# Altium footprint library QFP80P1200X1200X120-44N.PcbLib: 1 footprints
Each footprint in its own frame and in the unit in brackets; x right, y up, seen from the top. Pads: shape width x height; smd on the part's side, far side on the other; paste and mask are expansions set on the pad; w line width, h text height; cw(c..) or ccw(c..) is an arc to the next point about the centre after c.
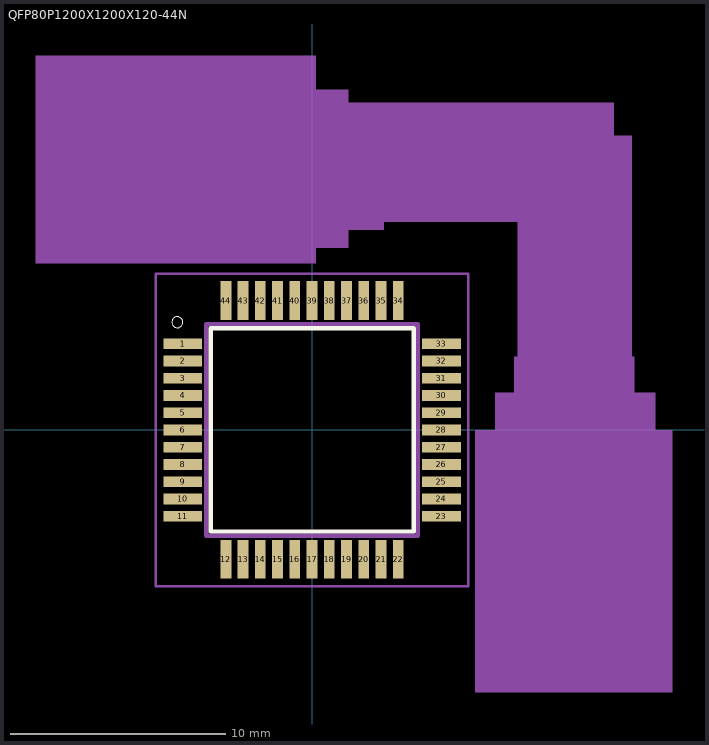
[diagram p0: the footprint, top view; thin cyan lines are the x and y axes]

## QFP80P1200X1200X120-44N [mm]
pads (44):
  rect 1.8x0.5 smd: 1(-6,4) 2(-6,3.2) 3(-6,2.4) 4(-6,1.6) 5(-6,0.8) 6(-6,0) 7(-6,-0.8) 8(-6,-1.6) 9(-6,-2.4) 10(-6,-3.2) 11(-6,-4) 23(6,-4) 24(6,-3.2) 25(6,-2.4) 26(6,-1.6) 27(6,-0.8) 28(6,0) 29(6,0.8) 30(6,1.6) 31(6,2.4) 32(6,3.2) 33(6,4)
  rect 0.5x1.8 smd: 12(-4,-6) 13(-3.2,-6) 14(-2.4,-6) 15(-1.6,-6) 16(-0.8,-6) 17(0,-6) 18(0.8,-6) 19(1.6,-6) 20(2.4,-6) 21(3.2,-6) 22(4,-6) 34(4,6) 35(3.2,6) 36(2.4,6) 37(1.6,6) 38(0.8,6) 39(0,6) 40(-0.8,6) 41(-1.6,6) 42(-2.4,6) 43(-3.2,6) 44(-4,6)
Top Overlay:
  circle w0: c-6.25,5 r0.254
  lines w0.203: -4.71,-4.71 4.71,-4.71 4.71,4.72 -4.71,4.72 -4.71,-4.71
Assembly Top:
  region: 16.707,-12.167 7.565,-12.167 7.565,-0.005 16.707,-0.005
  region: 15.911,-10.571 8.501,-10.571 8.501,1.732 15.911,1.732
  region: 14.936,-8.795 9.373,-8.795 9.373,3.403 14.936,3.403
  region: 14.15,-7.21 10.356,-7.21 10.356,5.186 14.15,5.186
  region: 13.18,-5.44 11.217,-5.44 11.217,6.847 13.18,6.847
  region: 12.276,-3.736 12.127,-3.736 12.127,8.557 12.276,8.557
  region: 13.212,-2.131 11.471,-2.131 11.471,10.442 13.212,10.442
  region: 14.007,-0.349 10.489,-0.349 10.489,12.037 14.007,12.037
  region: 14.825,1.392 9.548,1.392 9.548,13.655 14.825,13.655
  region: 14.004,9.648 1.292,9.648 1.292,15.174 14.004,15.174
  region: 11.693,10.346 -0.206,10.346 -0.206,13.663 11.693,13.663
  region: 10.698,11.619 -2.278,11.619 -2.278,13.468 10.698,13.468
  region: 8.531,12.101 -3.716,12.101 -3.716,12.256 8.531,12.256
  region: 6.798,11.168 -5.389,11.168 -5.389,13.13 6.798,13.13
  region: 5.221,10.391 -7.258,10.391 -7.258,14.198 5.221,14.198
  region: 3.324,9.294 -8.65,9.294 -8.65,14.79 3.324,14.79
  region: 1.678,8.448 -10.432,8.448 -10.432,15.772 1.678,15.772
  region: 0.165,7.735 -12.818,7.735 -12.818,17.358 0.165,17.358
  lines w0.203: -4.91,-4.91 -4.91,4.91 4.91,4.91 4.91,-4.91 -4.91,-4.91
Courtyard Top:
  lines w0.127: -7.25,-7.25 7.25,-7.25 7.25,7.25 -7.25,7.25 -7.25,-7.25
3D body "step_temp.STEP": height 1.2, standoff 0, extent -6,-6 6,6